# Altium schematic symbol library Diodes Incorporated.SchLib: 5 symbols
Pins are listed as number, name and electrical type; pins without a type are passive.

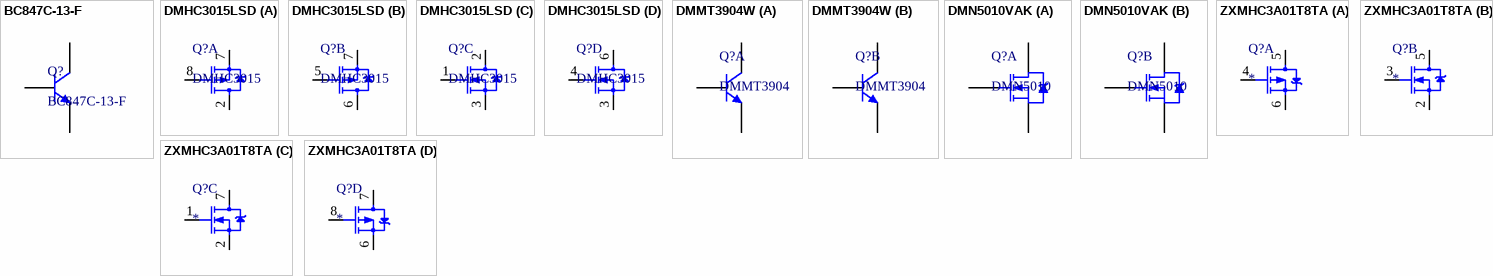
[diagram p0: symbols BC847C-13-F to ZXMHC3A01T8TA]

## BC847C-13-F
designator Q?
pins: 1 E, 2 B, 3 C

## DMHC3015LSD
designator Q?, comment DMHC3015
part A pins: 2 P1D, 7 P1S, 8 P1G
part B pins: 5 P2G, 6 P2D, 7 P2S
part C pins: 1 N1G, 2 N1D, 3 N1S
part D pins: 3 N2S, 4 N2G, 6 N2D

## DMMT3904W
designator Q?, comment DMMT3904
part A pins: 2 B1, 3 C1, 4 E1
part B pins: 1 B2, 5 E2, 6 C2

## DMN5010VAK
designator Q?, comment DMN5010
part A pins: 1 G1, 2 S1, 6 D1
part B pins: 3 D2, 4 G2, 5 S2

## ZXMHC3A01T8TA
designator Q?
part A pins: 4 G, 5 D, 6 S
part B pins: 2 S, 3 G, 5 D
part C pins: 1 G, 2 S, 7 D
part D pins: 6 S, 7 D, 8 G